# EAGLE library part 418117170905 (library Wurth_Elektronik_Electromechanic_Switch_rev16b)
2.54 mm compact THT with flat actuator WS-DITV, 5 Pole <http://katalog.we-online.de/media/images/v2/Family_WS_BS_4181171709xx_pf2.jpg> Details see: http://katalog.we-online.de/en/em/DITV_2_54_COMPACT_THT_WITH_FLAT_ACTUATOR 2015 (C) Wurth Elektroni
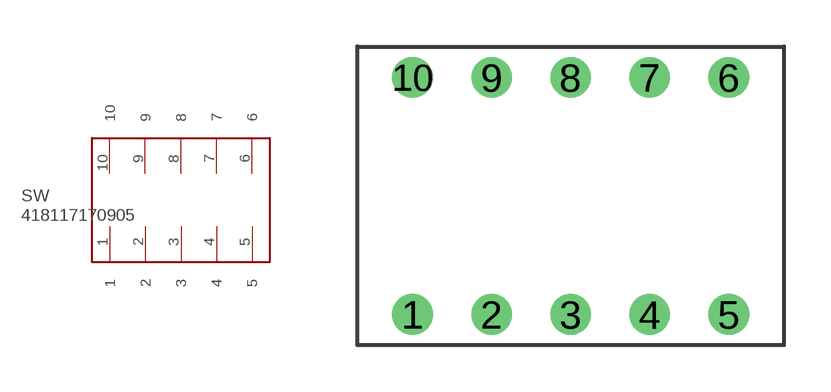
[diagram p51: symbol with the pads of 418117170905; footprint 418117170905]

Designator prefix SW

## 418117170905  [418117170905]
1  1
2  2
3  3
4  4
5  5
6  6
7  7
8  8
9  9
10  10

## Footprint 418117170905 (pad centres in mm)
WS-BS 2.54 mm compact THT Dip Switch with flat actuator, 5 Pole
drill 0.8: 1 -5.08,-3.81; 2 -2.54,-3.81; 3 0,-3.81; 4 2.54,-3.81; 5 5.08,-3.81; 6 5.08,3.81; 7 2.54,3.81; 8 0,3.81; 9 -2.54,3.81; 10 -5.08,3.81